# EAGLE library part 2081-1132/200-604 (library con-wago_2081)
Serie 2081, Klemmenleiste mit Betätigungsdrückern mit geraden Lötstiften versetzt (alternierend) / Series 2081, Terminal strip with push-buttons with straight, staggered solder pins Polzahl / Pole No.: 12 Rastermaß / Pitch: 3.5 mm Bemessungsspannung / Rated Voltage: 320 V Nennstrom / Nominal Current: 17.5 A Leiterquerschnitt / Conductor Size: 0.2 - 1.5 mm2 Anschlusstechnik / Connection Technology: CAGE CLAMP® S Lötstiftlänge: / Solder Pin Length: 2.4 mm Leitereinführung (zur Platine) / Conductor entry angle (to PCB): 90 ° Farbe / Color: schwarz / black Stand: 01.01.2014. Die jeweils aktuellen Daten zu diesem Artikel finden Sie in unserem Produktkatalog, den Sie unter www.wago.com einsehen können. As of: 01/01/2014. Please find the newest data for this article in our product catalogue, which can be viewed under www.wago.com.
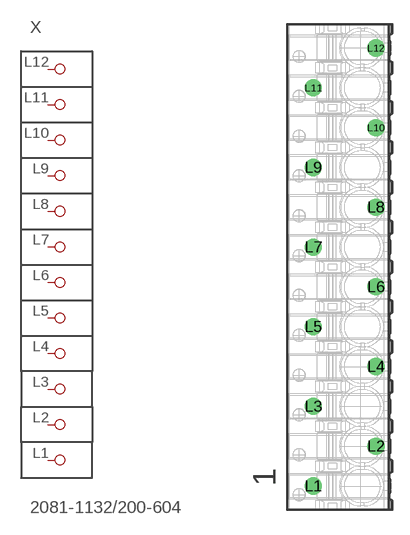
[diagram p17: symbol with the pads of P-2081-1132/200-604; footprint P-2081-1132/200-604]

Designator prefix X

## 2081-1132/200-604  [P-2081-1132/200-604]
L1  P1
L2  P2
L3  P3
L4  P4
L5  P5
L6  P6
L7  P7
L8  P8
L9  P9
L10  P10
L11  P11
L12  P12

## Footprint P-2081-1132/200-604 (pad centres in mm)
drill 1: L1 -2.325,-19.25; L2 3.175,-15.75; L3 -2.325,-12.25; L4 3.175,-8.75; L5 -2.325,-5.25; L6 3.175,-1.75; L7 -2.325,1.75; L8 3.175,5.25; L9 -2.325,8.75; L10 3.175,12.25; L11 -2.325,15.75; L12 3.175,19.25